# Altium integrated library Integrated_Library1.IntLib: 1 symbol
Pins are listed as number, name and electrical type; pins without a type are passive.

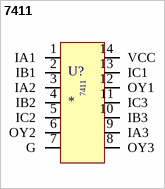
[diagram p0: symbol 7411]

## 7411
designator U?
Three Input AND Gate
footprint IC 7411 (Three Input AND Gate)
pins: 1 IA1 "A Input Gate 1", 2 IB1 "B Input Gate 1", 3 IA2 "A Input Gate 2", 4 IB2 "B Input Gate 2", 5 IC2 "C Input Gate 2", 6 OY2 "Y Output Gate 2", 7 G "Ground", 8 OY3 "Y Output Gate 3", 9 IA3 "A Input Gate 3", 10 IB3 "B Input Gate 3", 11 IC3 "C Input Gate 3", 12 OY1 "Y Output Gate 1", 13 IC1 "C Input Gate 1", 14 VCC "Vcc - Positive Supply"